# Altium schematic symbol library Schlib1.SchLib: 6 symbols
Pins are listed as number, name and electrical type; pins without a type are passive.

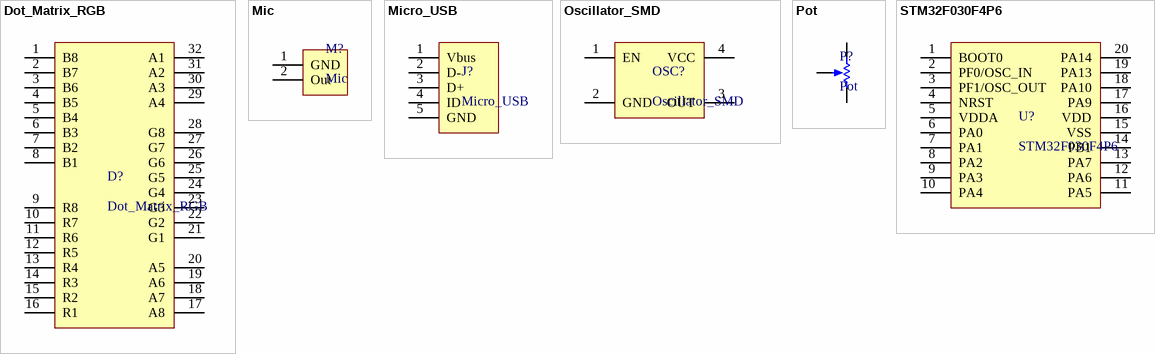
[diagram p0: symbols Dot_Matrix_RGB to STM32F030F4P6]

## Dot_Matrix_RGB
designator D?
footprint Dot_Matrix_RGB
pins: 1 B8, 2 B7, 3 B6, 4 B5, 5 B4, 6 B3, 7 B2, 8 B1, 9 R8, 10 R7, 11 R6, 12 R5, 13 R4, 14 R3, 15 R2, 16 R1, 17 A8, 18 A7, 19 A6, 20 A5, 21 G1, 22 G2, 23 G3, 24 G4, 25 G5, 26 G6, 27 G7, 28 G8, 29 A4, 30 A3, 31 A2, 32 A1

## Mic
designator M?
footprint Mic
pins: 1 GND, 2 Out

## Micro_USB
designator J?
footprint Micro_USB
pins: 1 Vbus, 2 D-, 3 D+, 4 ID, 5 GND

## Oscillator_SMD
designator OSC?
footprint Oscillaor_SMD
pins: 1 EN, 2 GND, 3 OUT, 4 VCC

## Pot
designator P?
footprint Pot
pins: 1 TOP, 2 BOT, 3 TAP

## STM32F030F4P6
designator U?
footprint TSSOP20
pins: 1 BOOT0, 2 PF0/OSC_IN, 3 PF1/OSC_OUT, 4 NRST, 5 VDDA, 6 PA0, 7 PA1, 8 PA2, 9 PA3, 10 PA4, 11 PA5, 12 PA6, 13 PA7, 14 PB1, 15 VSS, 16 VDD, 17 PA9, 18 PA10, 19 PA13, 20 PA14